# EAGLE library part DT15-6P (library RescueRunner)
DT15 Series, 4.44mm Pitch 6 Way 2 Row Straight PCB Header, Solder Termination
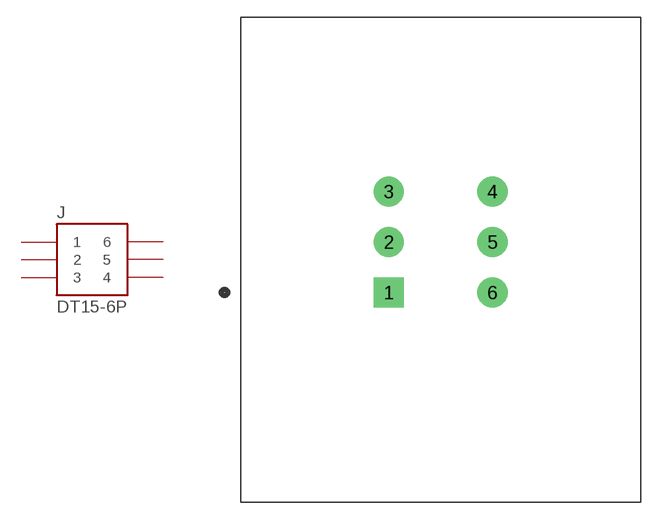
[diagram p26: symbol with the pads of TE_DT15-6P; footprint TE_DT15-6P]

Designator prefix J

## DT15-6P (AVAILABILITY: Unavailable; COMMENT: DT15-6P; DESCRIPTION: DT15 Series, 4.44mm Pitch 6 Way 2 Row Straight PCB Header, Solder Termination; MAXIMUM_PACKAGE_HEIGHT: 15.75mm; MF: TE Connectivity; MP: DT15-6P; PACKAGE: None; PARTREV: C1; PRICE: None; STANDARD: IPC-7351B; TE_PURCHASE_URL: https://www.te.com/usa-en/product-DT15-6P.html?te_bu=Cor&te_type=disp&te_campaign=seda_glo_cor-seda-global-disp-prtnr-fy19-seda-model-bom-cta_sma-317_1&elqCampaignId=32493)  [TE_DT15-6P]
1  1  pas
2  2  pas
3  3  pas
4  4  pas
5  5  pas
6  6  pas

## Footprint TE_DT15-6P (pad centres in mm)
drill 1.77 square: 1 -4.56,-4.45
drill 1.77: 2 -4.56,0; 3 -4.56,4.45; 4 4.56,4.45; 5 4.56,0; 6 4.56,-4.45